# Altium schematic symbol library schematic-lib.SchLib: 18 symbols
Pins are listed as number, name and electrical type; pins without a type are passive.

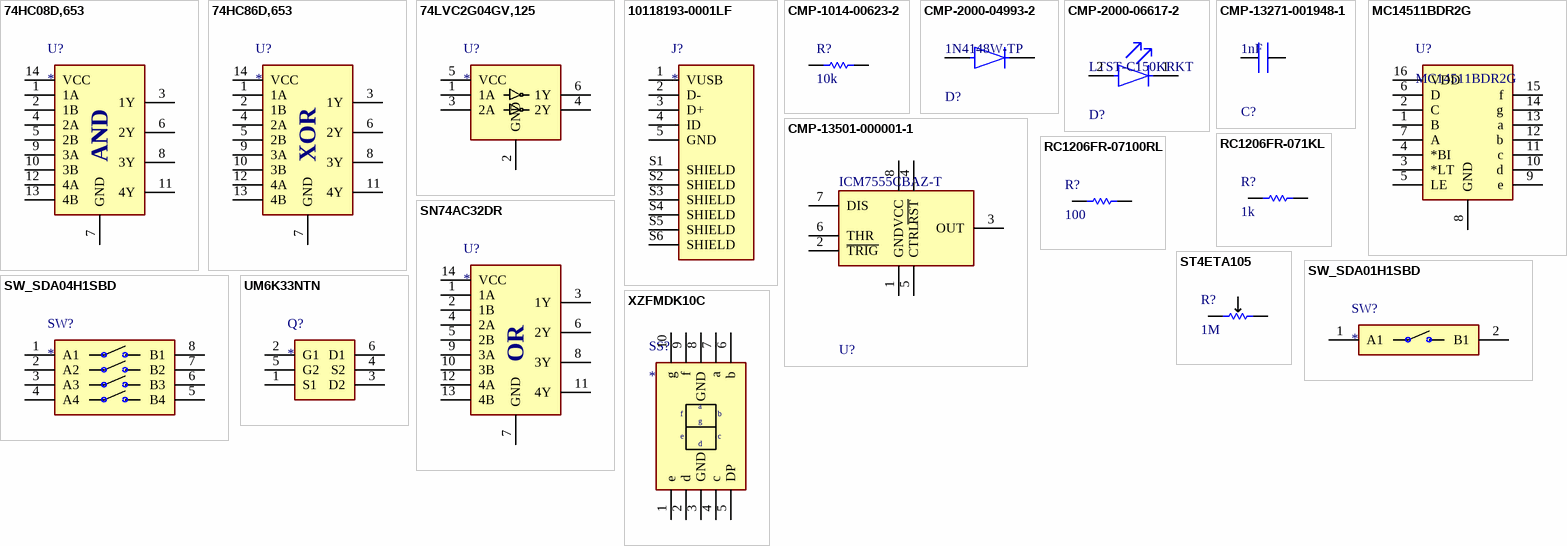
[diagram p0: symbols 74HC08D,653 to XZFMDK10C]

## 74HC08D,653
designator U?
AND 4 Channel 14-SO; MF: Nexperia USA; MP: 74HC86D,653; Digi-Key_Purchase_URL: https://www.digikey.com/product-detail/en/nexperia-usa-inc/74HC86D,653/1727-2827-1-ND/763396?utm_source=snapeda&utm_medium=aggregator&utm_campaign=symbol; Package: SOIC-14 NXP Semiconductors; SnapEDA_Link: https://www.snapeda.com/parts/74HC86D%2C653/Nexperia%20USA%20Inc./view-part/462082/?ref=snap; Value: *; Digi-Key_Part_Number: 1727-2827-1-ND
footprint SOIC127P600X175-14N
pins: 1 1A, 2 1B, 3 1Y, 4 2A, 5 2B, 6 2Y, 7 GND, 8 3Y, 9 3A, 10 3B, 11 4Y, 12 4A, 13 4B, 14 VCC
text: AND

## 74HC86D,653
designator U?
XOR 4 Channel 14-SO; MF: Nexperia USA; MP: 74HC86D,653; Digi-Key_Purchase_URL: https://www.digikey.com/product-detail/en/nexperia-usa-inc/74HC86D,653/1727-2827-1-ND/763396?utm_source=snapeda&utm_medium=aggregator&utm_campaign=symbol; Package: SOIC-14 NXP Semiconductors; SnapEDA_Link: https://www.snapeda.com/parts/74HC86D%2C653/Nexperia%20USA%20Inc./view-part/462082/?ref=snap; Value: *; Digi-Key_Part_Number: 1727-2827-1-ND
footprint SOIC127P600X175-14N
pins: 1 1A, 2 1B, 3 1Y, 4 2A, 5 2B, 6 2Y, 7 GND, 8 3Y, 9 3A, 10 3B, 11 4Y, 12 4A, 13 4B, 14 VCC
text: XOR

## 74LVC2G04GV,125
designator U?
IC INVERTER 2CH 2-INP 6TSOP
footprint SOT95P275X110-6N
pins: 1 1A, 2 GND, 3 2A, 4 2Y, 5 VCC, 6 1Y

## 10118193-0001LF
designator J?
USB - micro B USB 2.0 Receptacle Connector 5 Position Surface Mount, Right Angle; Through Hole; MP: 10118193-0001LF; MF: Amphenol ICC; Availability: Unavailable; SnapEDA_Link: https://www.snapeda.com/parts/10118193-0001LF/Amphenol%20FCI/view-part/2758989/?ref=snap; Price: None; Value: *; Package: None
footprint FCI_10118193-0001LF
pins: 1 VUSB, 2 D-, 3 D+, 4 ID, 5 GND, S1 SHIELD, S2 SHIELD, S3 SHIELD, S4 SHIELD, S5 SHIELD, S6 SHIELD

## CMP-1014-00623-2
designator R?, comment 10k
Manufacturer: Yageo; Tolerance: 1%; Voltage Rating: 200V; Resistance: 10KOhm; Temperature Coefficient: 100ppm/degreesC; Power Rating: 250mW; Packaging: TapeandReel; Termination: SMD/SMT; REACH SVHC: Unknown; Height: 0.55mm; Composition: ThickFilm; Max Operating Temperature: 155degC; Datasheet Version: Rev. 5, 10/2016; Lead Free: LeadFree; Case Code (Metric): 3216; Depth: 1.6mm; Package Quantity: 5000; RoHSCompliant: true; Military Standard: Not; Case/Package: 1206; Case Code (Imperial): 1206; Min Operating Temperature: -55degC; Datasheet URL: http://www.yageo.com/NewPortal/yageodocoutput?fileName=/pdf/R-Chip/PYu-RC_Group_51_RoHS_L_5.pdf; Length: 3.1mm; Manufacturer URL: http://www.yageo.com/; Package Reference: 1206.0; Width: 1.6mm; Package Description: 2-Pin Surface Mount Device, Body 3.1 x 1.6 mm
footprint RESC3116X65X40ML10T20 (Chip Resistor, 2-Leads, Body 3.10x1.60mm, IPC Low Density)
pins: 1, 2

## CMP-2000-04993-2
designator D?, comment 1N4148W-TP
DIODE GEN PURP 100V 150MA SOD123; Max Reverse Leakage Current: 5uA; Max Surge Current: 2A; Reverse Recovery Time: 4ns; Polarity: Standard; Capacitance: 4pF; Max Forward Surge Current (Ifsm): 1A; Element Configuration: Single; Power Dissipation: 400mW; Forward Voltage: 1V; Radiation Hardening: No; Lead Free: Lead Free; Max Reverse Voltage (DC): 100V; Current Rating: 150mA; Forward Current: 150mA; Packaging: Tape and Reel; Number of Pins: 2; Package Quantity: 3000; Max Operating Temperature: 150°C; Min Operating Temperature: -65°C; Average Rectified Current: 150mA; Recovery Time: 4ns; Output Current: 150mA; Peak Non-Repetitive Surge Current: 2A; Width: 1.8mm; Voltage Rating (DC): 100V; Height: 1.2mm; Max Repetitive Reverse Voltage (Vrrm): 100V; Mount: Surface Mount; Length: 2.85mm
footprint FP-SOD-123-MFG
pins: 1 C, 2 A

## CMP-2000-06617-2
designator D?, comment LTST-C150KRKT
LED RED CLEAR 1206 SMD; Wavelength: 639nm; Power Dissipation: 62.5mW; Luminous Intensity: 54mcd; Test Current: 20mA; Forward Current: 30mA; Reverse Voltage: 5V; Viewing Angle: 130°; Number of Elements: 1; Lens Style: Diffused; Power Rating: 75mW; Lens Color: Colorless; Forward Voltage: 2V; Dominant Wavelength: 631nm; Depth: 1.6mm; Mount: Surface Mount; Packaging: Tape and Reel; Case Code (Metric): 3216; Lens Transparency: Clear; Illumination Color: Red; Radiation Hardening: No; Min Operating Temperature: -30°C; Height: 1.1mm; Case Code (Imperial): 1206; Number of Pins: 2; Length: 3.2mm; Lead Free: Lead Free; Color: Red; Width: 1.6mm; Number of LEDs: 1; Max Operating Temperature: 85°C; Case/Package: 1206; Package Quantity: 1
footprint FP-LTST-C150KRKT-MFG
pins: 1 C, 2 A

## CMP-13271-001948-1
designator C?, comment 1nF
Cap Ceramic 1nF 50V X7R ±10% SMD 1206 +125°C Embossed T/R; Voltage: 63V; Case Code (Imperial): 1206; Depth: 1.6mm; Case Code (Metric): 3216; Width: 0.063inch; Package Quantity: 4000; Height: 0.85mm; Max Operating Temperature: 125°C; Radiation Hardening: No; Thickness: 0.037inch; Tolerance: 10%; Case/Package: 1206; Packaging: Tape and Reel; Voltage Rating (DC): 50V; Min Operating Temperature: -55°C; Material: Ceramic; Capacitance: 1nF; Length: 3.2mm; Voltage Rating: 50V; Mount: Surface Mount; Lead Free: Lead Free; Dielectric: X7R
footprint FP-CL31-IPC_A
pins: 1, 2

## CMP-13501-000001-1
designator U?, comment ICM7555CBAZ-T
IC OSC SINGLE TIMER 1MHZ 8-SOIC
footprint FP-M8_15-MFG
pins: 1 GND (power), 2 ~{TRIG} (hiz), 3 OUT, 4 ~{RST}, 5 CTRL (hiz), 6 THR (hiz), 7 DIS (oc), 8 VCC (power)

## MC14511BDR2G
designator U?
IC DRVR 7 SEGMENT 16SOIC; Mfr_Name: onsemi; Copyright: Copyright (C) 2022 Ultra Librarian. All rights reserved.; Manufacturer_Part_Number: MC14511BDR2G; RefDes: RefDes; Type: DEV
footprint SOIC-16_ONS-M
pins: 1 B, 2 C, 3 *LT, 4 *BI, 5 LE, 6 D, 7 A, 8 GND, 9 e, 10 d, 11 c, 12 b, 13 a, 14 g, 15 f, 16 VDD

## RC1206FR-071KL
designator R?, comment 1k
footprint RESC3116X65X40ML10T20 (Chip Resistor, 2-Leads, Body 3.10x1.60mm, IPC Low Density)
pins: 1, 2

## RC1206FR-07100RL
designator R?, comment 100
RES 100 OHM 1% 1/4W 1206
footprint RESC3116X65X40ML10T20 (Chip Resistor, 2-Leads, Body 3.10x1.60mm, IPC Low Density)
pins: 1, 2

## SN74AC32DR
designator U?
OR 4 Channel 14-SO; MF: Nexperia USA; MP: 74HC86D,653; Digi-Key_Purchase_URL: https://www.digikey.com/product-detail/en/nexperia-usa-inc/74HC86D,653/1727-2827-1-ND/763396?utm_source=snapeda&utm_medium=aggregator&utm_campaign=symbol; Package: SOIC-14 NXP Semiconductors; SnapEDA_Link: https://www.snapeda.com/parts/74HC86D%2C653/Nexperia%20USA%20Inc./view-part/462082/?ref=snap; Value: *; Digi-Key_Part_Number: 1727-2827-1-ND
footprint SOIC127P600X175-14N
pins: 1 1A, 2 1B, 3 1Y, 4 2A, 5 2B, 6 2Y, 7 GND, 8 3Y, 9 3A, 10 3B, 11 4Y, 12 4A, 13 4B, 14 VCC
text: OR

## ST4ETA105
designator R?, comment 1M
TRIMMER 1M OHM 0.25W J LEAD TOP
footprint ST4ETA105
pins: 1, 2, 3

## SW_SDA01H1SBD
designator SW?
SWITCH SLIDE DIP SPST
footprint SW_SDA01H1SBD
pins: 1 A1, 2 B1

## SW_SDA04H1SBD
designator SW?
SWITCH SLIDE DIP SPST
footprint SW_SDA04H1SBD
pins: 1 A1, 2 A2, 3 A3, 4 A4, 5 B4, 6 B3, 7 B2, 8 B1

## UM6K33NTN
designator Q?
MOSFET 2N-CH 50V 0.2A UMT6
footprint FP-SOT363-IPC_A
pins: 1 S1, 2 G1, 3 D2, 4 S2, 5 G2, 6 D1

## XZFMDK10C
designator SS?
DISPLAY 7-SEG 0.4" SGL RED 10SMD
footprint XZFMDK10C
pins: 1 e, 2 d, 3 GND, 4 c, 5 DP, 6 b, 7 a, 8 GND, 9 f, 10 g